# Altium footprint library 640456-5.PcbLib: 1 footprints
Each footprint in its own frame and in the unit in brackets; x right, y up, seen from the top. Pads: shape width x height; smd on the part's side, far side on the other; paste and mask are expansions set on the pad; w line width, h text height; cw(c..) or ccw(c..) is an arc to the next point about the centre after c.
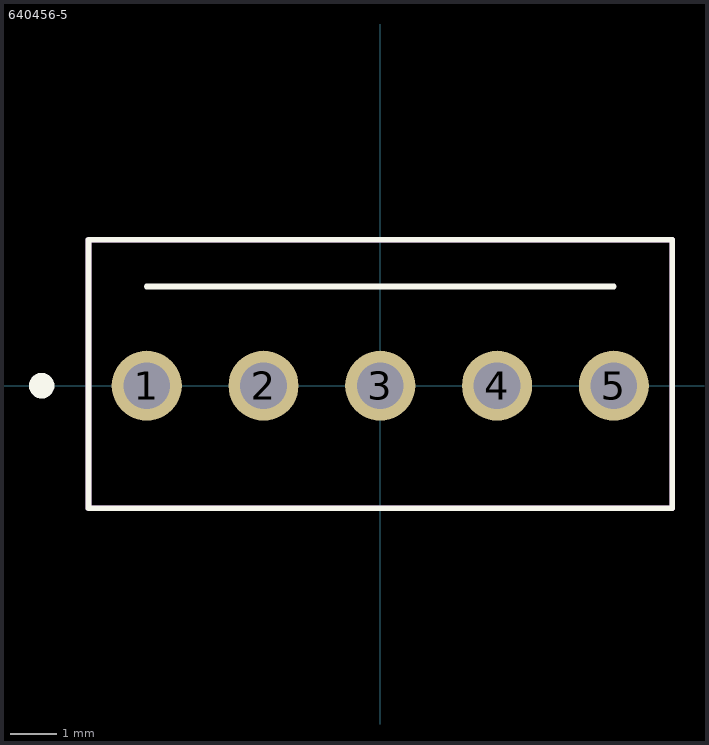
[diagram p0: the footprint, top view; thin cyan lines are the x and y axes]

## 640456-5 [mil]
height 295
pads (5):
  round 60 hole 40: 1(-200,0) 2(-100,0) 3(0,0) 4(100,0) 5(200,0)
Top Overlay:
  circle w11.81: c-290,0 r5
  lines w5: -200,85 200,85 ; -250,-105 -250,125 250,125 250,-105 -250,-105
Top Designator:
  text ".Designator" at -324.11,-9.99 h60
3D Body:
  lines w5: -250,-105 250,-105 250,125 -250,125 -250,-105
Center Cross:
  lines w5: 0,-20 0,0 ; 0,20 0,0 ; 20,0 0,0 ; 0,0 -20,0 0,0
3D body "c-640456-5-aa-3d.stp": height 397.36, standoff -137.64, extent -250,-105 250,125